# Altium schematic symbol library SparkFun-Capacitors.SCHLIB: 110 symbols
Pins are listed as number, name and electrical type; pins without a type are passive.

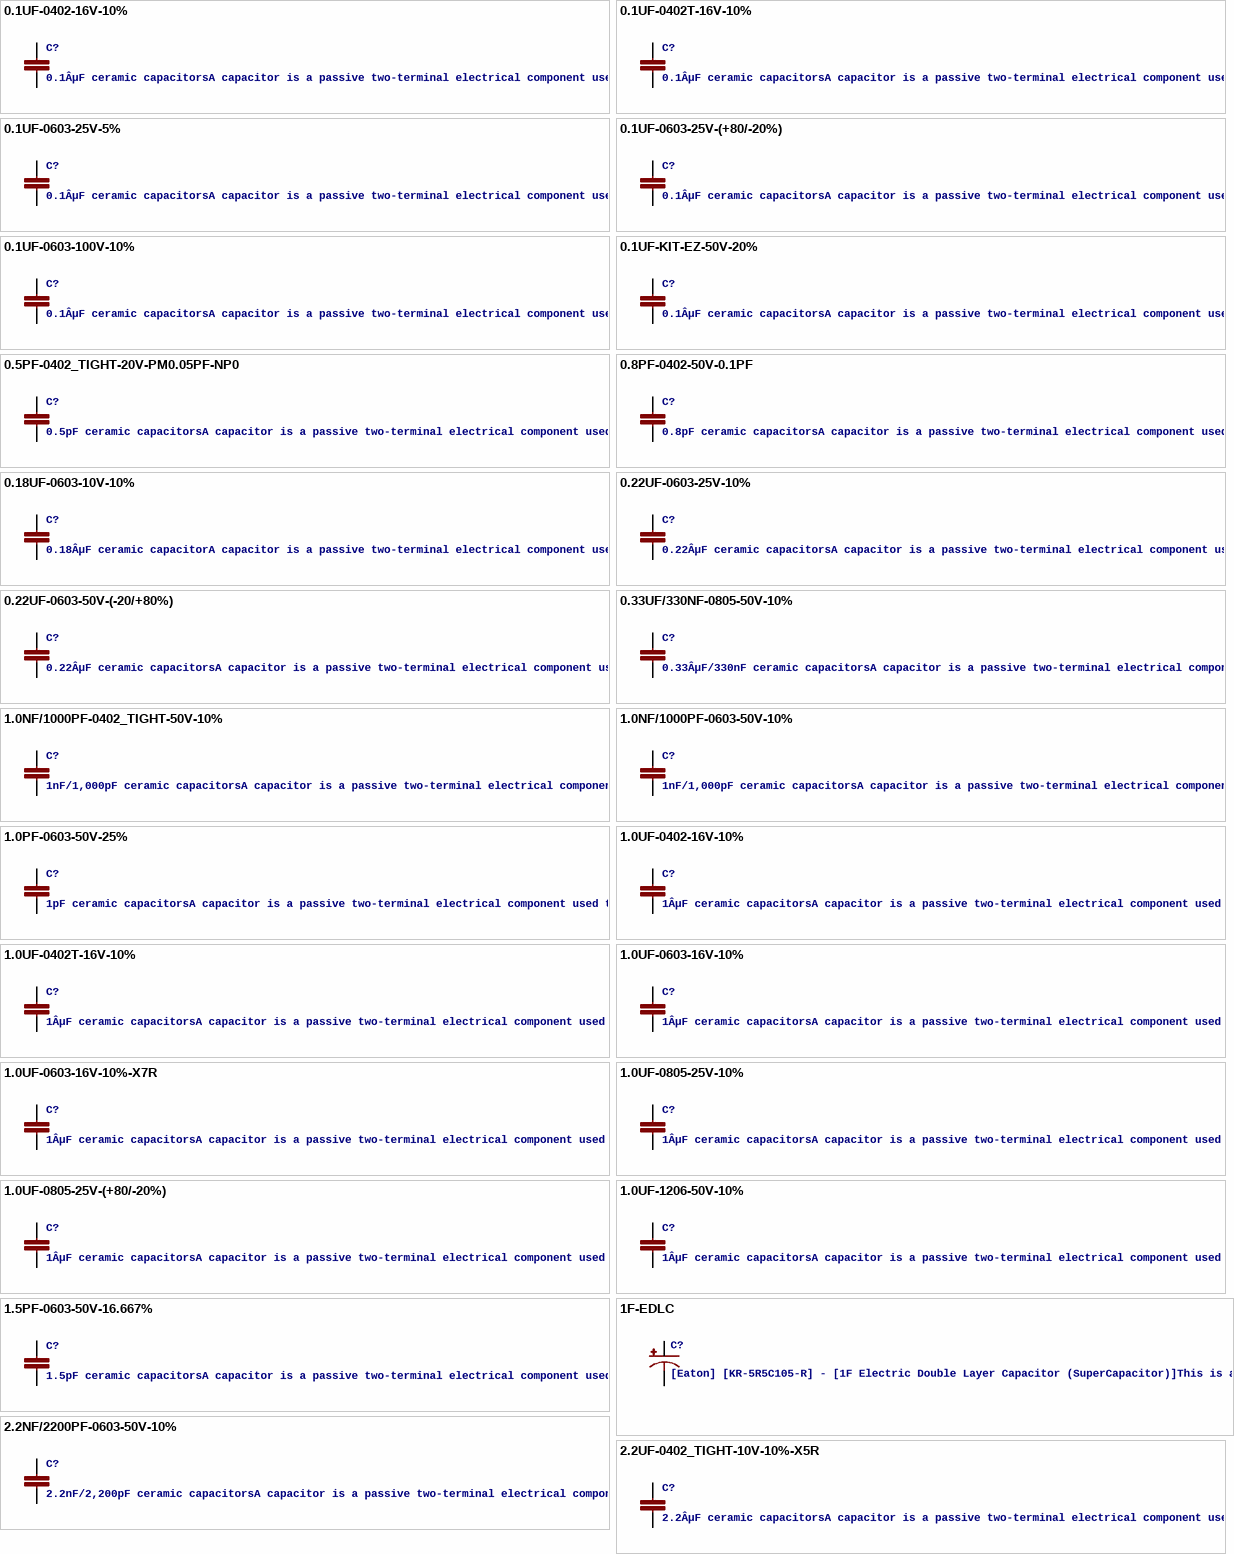
[diagram p0: symbols 0.1UF-0402-16V-10% to 2.2UF-0402_TIGHT-10V-10%-X5R]

## 0.1UF-0402-16V-10%
designator C?, comment 0.1ÂµF ceramic capacitorsA capacitor is a passive two-terminal electrical component used to store electrical energy temporarily in an electric field.
GateName_1: G$1; SymbolName_1: CAP; DeviceName: -0402-16V-10%; DeviceSetName: 0.1UF; PROD_ID: CAP-12416; LibraryName: SparkFun-Capacitors; Package: 0402
footprint 0402
pins: 1, 2

## 0.1UF-0402T-16V-10%
designator C?, comment 0.1ÂµF ceramic capacitorsA capacitor is a passive two-terminal electrical component used to store electrical energy temporarily in an electric field.
GateName_1: G$1; SymbolName_1: CAP; DeviceName: -0402T-16V-10%; DeviceSetName: 0.1UF; PROD_ID: CAP-12416; LibraryName: SparkFun-Capacitors; Package: 0402-TIGHT
footprint 0402-TIGHT
pins: 1, 2

## 0.1UF-0603-25V-5%
designator C?, comment 0.1ÂµF ceramic capacitorsA capacitor is a passive two-terminal electrical component used to store electrical energy temporarily in an electric field.
GateName_1: G$1; SymbolName_1: CAP; DeviceName: -0603-25V-5%; DeviceSetName: 0.1UF; PROD_ID: CAP-08604; LibraryName: SparkFun-Capacitors; Package: 0603
footprint 0603
pins: 1, 2

## 0.1UF-0603-25V-(+80/-20%)
designator C?, comment 0.1ÂµF ceramic capacitorsA capacitor is a passive two-terminal electrical component used to store electrical energy temporarily in an electric field.
GateName_1: G$1; SymbolName_1: CAP; DeviceName: -0603-25V-(+80/-20%); DeviceSetName: 0.1UF; PROD_ID: CAP-00810; LibraryName: SparkFun-Capacitors; Package: 0603
footprint 0603
pins: 1, 2

## 0.1UF-0603-100V-10%
designator C?, comment 0.1ÂµF ceramic capacitorsA capacitor is a passive two-terminal electrical component used to store electrical energy temporarily in an electric field.
GateName_1: G$1; SymbolName_1: CAP; DeviceName: -0603-100V-10%; DeviceSetName: 0.1UF; PROD_ID: CAP-08390; LibraryName: SparkFun-Capacitors; Package: 0603
footprint 0603
pins: 1, 2

## 0.1UF-KIT-EZ-50V-20%
designator C?, comment 0.1ÂµF ceramic capacitorsA capacitor is a passive two-terminal electrical component used to store electrical energy temporarily in an electric field.
GateName_1: G$1; SymbolName_1: CAP; DeviceName: -KIT-EZ-50V-20%; DeviceSetName: 0.1UF; PROD_ID: CAP-08370; LibraryName: SparkFun-Capacitors; Package: CAP-PTH-SMALL-KIT
footprint CAP-PTH-SMALL-KIT
pins: 1, 2

## 0.5PF-0402_TIGHT-20V-PM0.05PF-NP0
designator C?, comment 0.5pF ceramic capacitorsA capacitor is a passive two-terminal electrical component used to store electrical energy temporarily in an electric field.
GateName_1: G$1; SymbolName_1: CAP; DeviceName: -0402_TIGHT-20V-PM0.05PF-NP0; PROD_ID: CAP-14231; LibraryName: SparkFun-Capacitors; DeviceSetName: 0.5PF; Package: 0402-TIGHT
footprint 0402-TIGHT
pins: 1, 2

## 0.8PF-0402-50V-0.1PF
designator C?, comment 0.8pF ceramic capacitorsA capacitor is a passive two-terminal electrical component used to store electrical energy temporarily in an electric field.
GateName_1: G$1; SymbolName_1: CAP; DeviceName: -0402-50V-0.1PF; PROD_ID: CAP-13456; LibraryName: SparkFun-Capacitors; DeviceSetName: 0.8PF; Package: 0402
footprint 0402
pins: 1, 2

## 0.18UF-0603-10V-10%
designator C?, comment 0.18ÂµF ceramic capacitorA capacitor is a passive two-terminal electrical component used to store electrical energy temporarily in an electric field.
GateName_1: G$1; SymbolName_1: CAP; DeviceName: -0603-10V-10%; DeviceSetName: 0.18UF; PROD_ID: CAP-12380; LibraryName: SparkFun-Capacitors; Package: 0603
footprint 0603
pins: 1, 2

## 0.22UF-0603-25V-10%
designator C?, comment 0.22ÂµF ceramic capacitorsA capacitor is a passive two-terminal electrical component used to store electrical energy temporarily in an electric field.
GateName_1: G$1; SymbolName_1: CAP; DeviceName: -0603-25V-10%; DeviceSetName: 0.22UF; PROD_ID: CAP-07822; LibraryName: SparkFun-Capacitors; Package: 0603
footprint 0603
pins: 1, 2

## 0.22UF-0603-50V-(-20/+80%)
designator C?, comment 0.22ÂµF ceramic capacitorsA capacitor is a passive two-terminal electrical component used to store electrical energy temporarily in an electric field.
GateName_1: G$1; SymbolName_1: CAP; DeviceName: -0603-50V-(-20/+80%); DeviceSetName: 0.22UF; PROD_ID: CAP-09885; LibraryName: SparkFun-Capacitors; Package: 0603
footprint 0603
pins: 1, 2

## 0.33UF/330NF-0805-50V-10%
designator C?, comment 0.33ÂµF/330nF ceramic capacitorsA capacitor is a passive two-terminal electrical component used to store electrical energy temporarily in an electric field.
GateName_1: G$1; SymbolName_1: CAP; DeviceName: -0805-50V-10%; DeviceSetName: 0.33UF/330NF; PROD_ID: CAP-08469; LibraryName: SparkFun-Capacitors; Package: 0805
footprint 0805
pins: 1, 2

## 1.0NF/1000PF-0402_TIGHT-50V-10%
designator C?, comment 1nF/1,000pF ceramic capacitorsA capacitor is a passive two-terminal electrical component used to store electrical energy temporarily in an electric field.
GateName_1: G$1; SymbolName_1: CAP; DeviceName: -0402_TIGHT-50V-10%; DeviceSetName: 1.0NF/1000PF; PROD_ID: CAP-14280; LibraryName: SparkFun-Capacitors; Package: 0402-TIGHT
footprint 0402-TIGHT
pins: 1, 2

## 1.0NF/1000PF-0603-50V-10%
designator C?, comment 1nF/1,000pF ceramic capacitorsA capacitor is a passive two-terminal electrical component used to store electrical energy temporarily in an electric field.
GateName_1: G$1; SymbolName_1: CAP; DeviceName: -0603-50V-10%; DeviceSetName: 1.0NF/1000PF; PROD_ID: CAP-07886; LibraryName: SparkFun-Capacitors; Package: 0603
footprint 0603
pins: 1, 2

## 1.0PF-0603-50V-25%
designator C?, comment 1pF ceramic capacitorsA capacitor is a passive two-terminal electrical component used to store electrical energy temporarily in an electric field.
GateName_1: G$1; SymbolName_1: CAP; DeviceName: -0603-50V-25%; DeviceSetName: 1.0PF; PROD_ID: CAP-07879; LibraryName: SparkFun-Capacitors; Package: 0603
footprint 0603
pins: 1, 2

## 1.0UF-0402-16V-10%
designator C?, comment 1ÂµF ceramic capacitorsA capacitor is a passive two-terminal electrical component used to store electrical energy temporarily in an electric field.
GateName_1: G$1; SymbolName_1: CAP; DeviceName: -0402-16V-10%; DeviceSetName: 1.0UF; PROD_ID: CAP-12417; LibraryName: SparkFun-Capacitors; Package: 0402
footprint 0402
pins: 1, 2

## 1.0UF-0402T-16V-10%
designator C?, comment 1ÂµF ceramic capacitorsA capacitor is a passive two-terminal electrical component used to store electrical energy temporarily in an electric field.
GateName_1: G$1; SymbolName_1: CAP; DeviceName: -0402T-16V-10%; DeviceSetName: 1.0UF; PROD_ID: CAP-12417; LibraryName: SparkFun-Capacitors; Package: 0402-TIGHT
footprint 0402-TIGHT
pins: 1, 2

## 1.0UF-0603-16V-10%
designator C?, comment 1ÂµF ceramic capacitorsA capacitor is a passive two-terminal electrical component used to store electrical energy temporarily in an electric field.
GateName_1: G$1; SymbolName_1: CAP; DeviceName: -0603-16V-10%; DeviceSetName: 1.0UF; PROD_ID: CAP-00868; LibraryName: SparkFun-Capacitors; Package: 0603
footprint 0603
pins: 1, 2

## 1.0UF-0603-16V-10%-X7R
designator C?, comment 1ÂµF ceramic capacitorsA capacitor is a passive two-terminal electrical component used to store electrical energy temporarily in an electric field.
GateName_1: G$1; SymbolName_1: CAP; DeviceName: -0603-16V-10%-X7R; DeviceSetName: 1.0UF; PROD_ID: CAP-13930; LibraryName: SparkFun-Capacitors; Package: 0603
footprint 0603
pins: 1, 2

## 1.0UF-0805-25V-10%
designator C?, comment 1ÂµF ceramic capacitorsA capacitor is a passive two-terminal electrical component used to store electrical energy temporarily in an electric field.
GateName_1: G$1; SymbolName_1: CAP; DeviceName: -0805-25V-10%; DeviceSetName: 1.0UF; PROD_ID: CAP-08064; LibraryName: SparkFun-Capacitors; Package: 0805
footprint 0805
pins: 1, 2

## 1.0UF-0805-25V-(+80/-20%)
designator C?, comment 1ÂµF ceramic capacitorsA capacitor is a passive two-terminal electrical component used to store electrical energy temporarily in an electric field.
GateName_1: G$1; SymbolName_1: CAP; DeviceName: -0805-25V-(+80/-20%); DeviceSetName: 1.0UF; PROD_ID: CAP-11625; LibraryName: SparkFun-Capacitors; Package: 0805
footprint 0805
pins: 1, 2

## 1.0UF-1206-50V-10%
designator C?, comment 1ÂµF ceramic capacitorsA capacitor is a passive two-terminal electrical component used to store electrical energy temporarily in an electric field.
GateName_1: G$1; SymbolName_1: CAP; DeviceName: -1206-50V-10%; DeviceSetName: 1.0UF; PROD_ID: CAP-09822; LibraryName: SparkFun-Capacitors; Package: 1206
footprint 1206
pins: 1, 2

## 1.5PF-0603-50V-16.667%
designator C?, comment 1.5pF ceramic capacitorsA capacitor is a passive two-terminal electrical component used to store electrical energy temporarily in an electric field.
GateName_1: G$1; SymbolName_1: CAP; DeviceName: -0603-50V-16.667%; PROD_ID: CAP-08763; LibraryName: SparkFun-Capacitors; DeviceSetName: 1.5PF; Package: 0603
footprint 0603
pins: 1, 2

## 1F-EDLC
designator C?, comment [Eaton] [KR-5R5C105-R] - [1F Electric Double Layer Capacitor (SuperCapacitor)]This is a 21.5mm OD 1F SuperCapacitor.
GateName_1: G$1; SymbolName_1: CAP_POL; DeviceSetName: 1F-EDLC; PROD_ID: CAP-13904; LibraryName: SparkFun-Capacitors; Package: CAP-RADIAL-5MM-21.5MM
footprint CAP-RADIAL-5MM-21.5MM
pins: +, -

## 2.2NF/2200PF-0603-50V-10%
designator C?, comment 2.2nF/2,200pF ceramic capacitorsA capacitor is a passive two-terminal electrical component used to store electrical energy temporarily in an electric field.
GateName_1: G$1; SymbolName_1: CAP; DeviceName: -0603-50V-10%; DeviceSetName: 2.2NF/2200PF; PROD_ID: CAP-07877; LibraryName: SparkFun-Capacitors; Package: 0603
footprint 0603
pins: 1, 2

## 2.2UF-0402_TIGHT-10V-10%-X5R
designator C?, comment 2.2ÂµF ceramic capacitorsA capacitor is a passive two-terminal electrical component used to store electrical energy temporarily in an electric field.
GateName_1: G$1; SymbolName_1: CAP; DeviceName: -0402_TIGHT-10V-10%-X5R; DeviceSetName: 2.2UF; PROD_ID: CAP-14232; LibraryName: SparkFun-Capacitors; Package: 0402-TIGHT
footprint 0402-TIGHT
pins: 1, 2

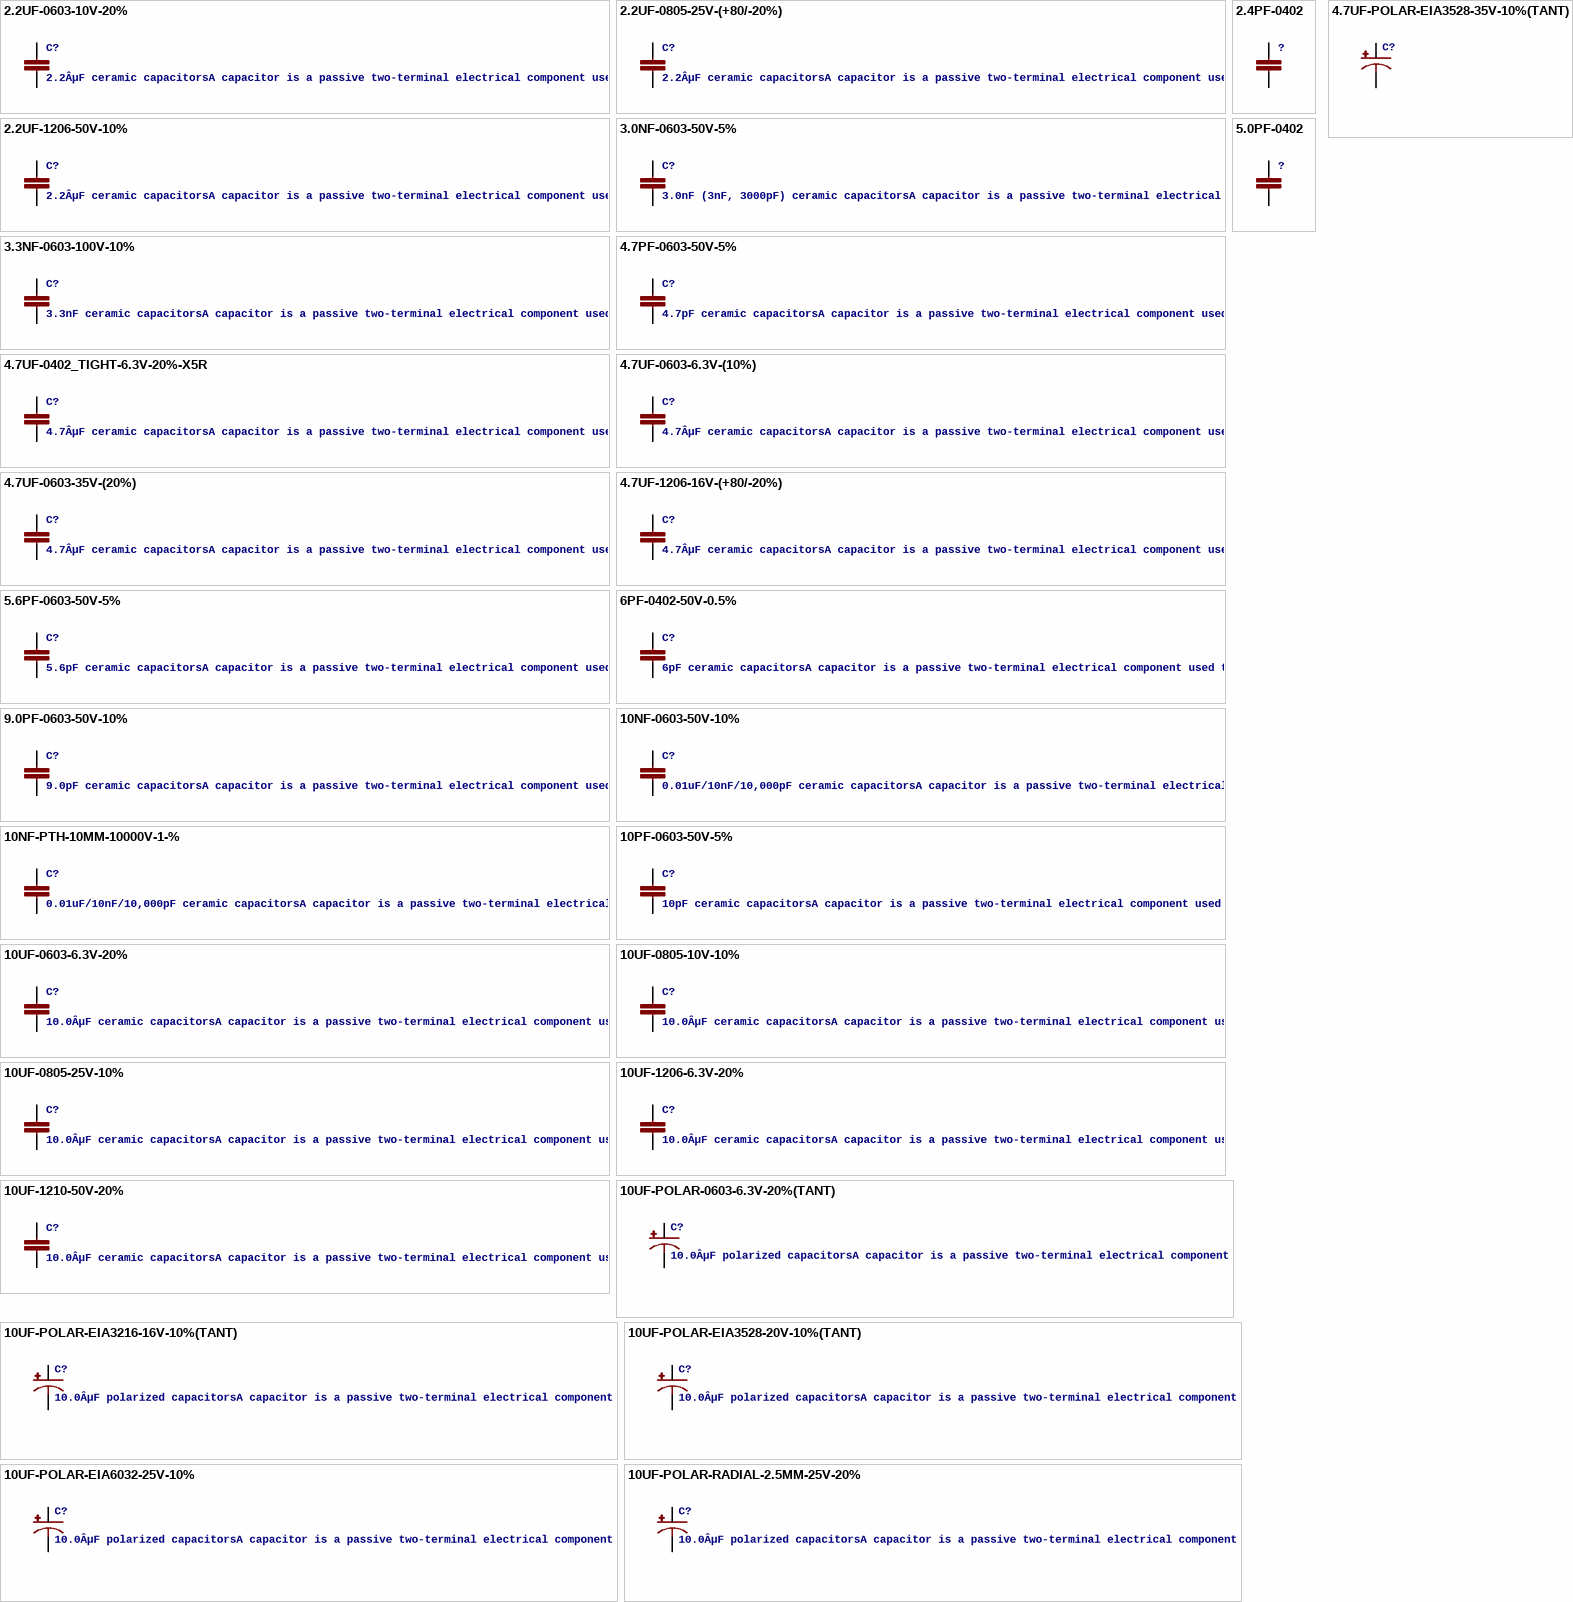
[diagram p1: symbols 2.2UF-0603-10V-20% to 10UF-POLAR-RADIAL-2.5MM-25V-20%]

## 2.2UF-0603-10V-20%
designator C?, comment 2.2ÂµF ceramic capacitorsA capacitor is a passive two-terminal electrical component used to store electrical energy temporarily in an electric field.
GateName_1: G$1; SymbolName_1: CAP; DeviceName: -0603-10V-20%; DeviceSetName: 2.2UF; PROD_ID: CAP-07888; LibraryName: SparkFun-Capacitors; Package: 0603
footprint 0603
pins: 1, 2

## 2.2UF-0805-25V-(+80/-20%)
designator C?, comment 2.2ÂµF ceramic capacitorsA capacitor is a passive two-terminal electrical component used to store electrical energy temporarily in an electric field.
GateName_1: G$1; SymbolName_1: CAP; DeviceName: -0805-25V-(+80/-20%); DeviceSetName: 2.2UF; PROD_ID: CAP-11624; LibraryName: SparkFun-Capacitors; Package: 0805
footprint 0805
pins: 1, 2

## 2.2UF-1206-50V-10%
designator C?, comment 2.2ÂµF ceramic capacitorsA capacitor is a passive two-terminal electrical component used to store electrical energy temporarily in an electric field.
GateName_1: G$1; SymbolName_1: CAP; DeviceName: -1206-50V-10%; DeviceSetName: 2.2UF; PROD_ID: CAP-10009; LibraryName: SparkFun-Capacitors; Package: 1206
footprint 1206
pins: 1, 2

## 2.4PF-0402
designator ?
GateName_1: G$1; SymbolName_1: CAP; DeviceName: -0402; DeviceSetName: 2.4PF; PROD_ID: CAP-14351; LibraryName: SparkFun-Capacitors; Package: 0402_MURATA
footprint 0402_MURATA
pins: P$1 1, P$2 2

## 3.0NF-0603-50V-5%
designator C?, comment 3.0nF (3nF, 3000pF) ceramic capacitorsA capacitor is a passive two-terminal electrical component used to store electrical energy temporarily in an electric field.
GateName_1: G$1; SymbolName_1: CAP-1; DeviceName: -0603-50V-5%; PROD_ID: CAP-13515; LibraryName: SparkFun-Capacitors; DeviceSetName: 3.0NF; Package: 0603
footprint 0603
pins: 1, 2

## 3.3NF-0603-100V-10%
designator C?, comment 3.3nF ceramic capacitorsA capacitor is a passive two-terminal electrical component used to store electrical energy temporarily in an electric field.
GateName_1: G$1; SymbolName_1: CAP; DeviceName: -0603-100V-10%; PROD_ID: CAP-09633; LibraryName: SparkFun-Capacitors; DeviceSetName: 3.3NF; Package: 0603
footprint 0603
pins: 1, 2

## 4.7PF-0603-50V-5%
designator C?, comment 4.7pF ceramic capacitorsA capacitor is a passive two-terminal electrical component used to store electrical energy temporarily in an electric field.
GateName_1: G$1; SymbolName_1: CAP; DeviceName: -0603-50V-5%; PROD_ID: CAP-07880; LibraryName: SparkFun-Capacitors; DeviceSetName: 4.7PF; Package: 0603
footprint 0603
pins: 1, 2

## 4.7UF-0402_TIGHT-6.3V-20%-X5R
designator C?, comment 4.7ÂµF ceramic capacitorsA capacitor is a passive two-terminal electrical component used to store electrical energy temporarily in an electric field.
GateName_1: G$1; SymbolName_1: CAP; DeviceName: -0402_TIGHT-6.3V-20%-X5R; DeviceSetName: 4.7UF; PROD_ID: CAP-14240; LibraryName: SparkFun-Capacitors; Package: 0402-TIGHT
footprint 0402-TIGHT
pins: 1, 2

## 4.7UF-0603-6.3V-(10%)
designator C?, comment 4.7ÂµF ceramic capacitorsA capacitor is a passive two-terminal electrical component used to store electrical energy temporarily in an electric field.
GateName_1: G$1; SymbolName_1: CAP; DeviceName: -0603-6.3V-(10%); DeviceSetName: 4.7UF; PROD_ID: CAP-08280; LibraryName: SparkFun-Capacitors; Package: 0603
footprint 0603
pins: 1, 2

## 4.7UF-0603-35V-(20%)
designator C?, comment 4.7ÂµF ceramic capacitorsA capacitor is a passive two-terminal electrical component used to store electrical energy temporarily in an electric field.
GateName_1: G$1; SymbolName_1: CAP; DeviceName: -0603-35V-(20%); DeviceSetName: 4.7UF; PROD_ID: CAP-14106; LibraryName: SparkFun-Capacitors; Package: 0603
footprint 0603
pins: 1, 2

## 4.7UF-1206-16V-(+80/-20%)
designator C?, comment 4.7ÂµF ceramic capacitorsA capacitor is a passive two-terminal electrical component used to store electrical energy temporarily in an electric field.
GateName_1: G$1; SymbolName_1: CAP; DeviceName: -1206-16V-(+80/-20%); DeviceSetName: 4.7UF; PROD_ID: CAP-10300; LibraryName: SparkFun-Capacitors; Package: 1206
footprint 1206
pins: 1, 2

## 4.7UF-POLAR-EIA3528-35V-10%(TANT)
designator C?
GateName_1: G$1; SymbolName_1: CAP_POL; DeviceName: -EIA3528-35V-10%(TANT); DeviceSetName: 4.7UF-POLAR; PROD_ID: CAP-13916; LibraryName: SparkFun-Capacitors; Package: EIA3528
footprint EIA3528
pins: A +, C -

## 5.0PF-0402
designator ?
GateName_1: G$1; SymbolName_1: CAP; DeviceName: -0402; DeviceSetName: 5.0PF; PROD_ID: CAP-14350; LibraryName: SparkFun-Capacitors; Package: 0402_MURATA
footprint 0402_MURATA
pins: P$1 1, P$2 2

## 5.6PF-0603-50V-5%
designator C?, comment 5.6pF ceramic capacitorsA capacitor is a passive two-terminal electrical component used to store electrical energy temporarily in an electric field.
GateName_1: G$1; SymbolName_1: CAP; DeviceName: -0603-50V-5%; PROD_ID: CAP-12456; LibraryName: SparkFun-Capacitors; DeviceSetName: 5.6PF; Package: 0603
footprint 0603
pins: 1, 2

## 6PF-0402-50V-0.5%
designator C?, comment 6pF ceramic capacitorsA capacitor is a passive two-terminal electrical component used to store electrical energy temporarily in an electric field.
GateName_1: G$1; SymbolName_1: CAP; DeviceName: -0402-50V-0.5%; PROD_ID: CAP-13455; LibraryName: SparkFun-Capacitors; DeviceSetName: 6PF; Package: 0402
footprint 0402
pins: 1, 2

## 9.0PF-0603-50V-10%
designator C?, comment 9.0pF ceramic capacitorsA capacitor is a passive two-terminal electrical component used to store electrical energy temporarily in an electric field.
GateName_1: G$1; SymbolName_1: CAP; DeviceName: -0603-50V-10%; PROD_ID: CAP-09341; LibraryName: SparkFun-Capacitors; DeviceSetName: 9.0PF; Package: 0603
footprint 0603
pins: 1, 2

## 10NF-0603-50V-10%
designator C?, comment 0.01uF/10nF/10,000pF ceramic capacitorsA capacitor is a passive two-terminal electrical component used to store electrical energy temporarily in an electric field.CAP-09321
GateName_1: G$1; SymbolName_1: CAP; DeviceName: -0603-50V-10%; DeviceSetName: 10NF; PROD_ID: CAP-00867; LibraryName: SparkFun-Capacitors; Package: 0603
footprint 0603
pins: 1, 2

## 10NF-PTH-10MM-10000V-1-%
designator C?, comment 0.01uF/10nF/10,000pF ceramic capacitorsA capacitor is a passive two-terminal electrical component used to store electrical energy temporarily in an electric field.CAP-09321
GateName_1: G$1; SymbolName_1: CAP; DeviceName: -PTH-10MM-10000V-1-%; DeviceSetName: 10NF; LibraryName: SparkFun-Capacitors; Package: CAP-PTH-10MM; PROD_ID: CAP-09321
footprint CAP-PTH-10MM
pins: 1, 2

## 10PF-0603-50V-5%
designator C?, comment 10pF ceramic capacitorsA capacitor is a passive two-terminal electrical component used to store electrical energy temporarily in an electric field.
GateName_1: G$1; SymbolName_1: CAP; DeviceName: -0603-50V-5%; PROD_ID: CAP-11812; LibraryName: SparkFun-Capacitors; DeviceSetName: 10PF; Package: 0603
footprint 0603
pins: 1, 2

## 10UF-0603-6.3V-20%
designator C?, comment 10.0ÂµF ceramic capacitorsA capacitor is a passive two-terminal electrical component used to store electrical energy temporarily in an electric field.
GateName_1: G$1; SymbolName_1: CAP; DeviceName: -0603-6.3V-20%; DeviceSetName: 10UF; PROD_ID: CAP-11015; LibraryName: SparkFun-Capacitors; Package: 0603
footprint 0603
pins: 1, 2

## 10UF-0805-10V-10%
designator C?, comment 10.0ÂµF ceramic capacitorsA capacitor is a passive two-terminal electrical component used to store electrical energy temporarily in an electric field.
GateName_1: G$1; SymbolName_1: CAP; DeviceName: -0805-10V-10%; DeviceSetName: 10UF; PROD_ID: CAP-11330; LibraryName: SparkFun-Capacitors; Package: 0805
footprint 0805
pins: 1, 2

## 10UF-0805-25V-10%
designator C?, comment 10.0ÂµF ceramic capacitorsA capacitor is a passive two-terminal electrical component used to store electrical energy temporarily in an electric field.
GateName_1: G$1; SymbolName_1: CAP; DeviceName: -0805-25V-10%; DeviceSetName: 10UF; PROD_ID: CAP-14259; LibraryName: SparkFun-Capacitors; Package: 0805
footprint 0805
pins: 1, 2

## 10UF-1206-6.3V-20%
designator C?, comment 10.0ÂµF ceramic capacitorsA capacitor is a passive two-terminal electrical component used to store electrical energy temporarily in an electric field.
GateName_1: G$1; SymbolName_1: CAP; DeviceName: -1206-6.3V-20%; DeviceSetName: 10UF; PROD_ID: CAP-10057; LibraryName: SparkFun-Capacitors; Package: 1206
footprint 1206
pins: 1, 2

## 10UF-1210-50V-20%
designator C?, comment 10.0ÂµF ceramic capacitorsA capacitor is a passive two-terminal electrical component used to store electrical energy temporarily in an electric field.
GateName_1: G$1; SymbolName_1: CAP; DeviceName: -1210-50V-20%; DeviceSetName: 10UF; PROD_ID: CAP-09824; LibraryName: SparkFun-Capacitors; Package: 1210
footprint 1210
pins: 1, 2

## 10UF-POLAR-0603-6.3V-20%(TANT)
designator C?, comment 10.0ÂµF polarized capacitorsA capacitor is a passive two-terminal electrical component used to store electrical energy temporarily in an electric field.
GateName_1: G$1; SymbolName_1: CAP_POL; DeviceName: -0603-6.3V-20%(TANT); DeviceSetName: 10UF-POLAR; PROD_ID: CAP-13210; LibraryName: SparkFun-Capacitors; Package: 0603-POLAR
footprint 0603-POLAR
pins: +, -

## 10UF-POLAR-EIA3216-16V-10%(TANT)
designator C?, comment 10.0ÂµF polarized capacitorsA capacitor is a passive two-terminal electrical component used to store electrical energy temporarily in an electric field.
GateName_1: G$1; SymbolName_1: CAP_POL; DeviceName: -EIA3216-16V-10%(TANT); DeviceSetName: 10UF-POLAR; PROD_ID: CAP-00811; LibraryName: SparkFun-Capacitors; Package: EIA3216
footprint EIA3216
pins: +, -

## 10UF-POLAR-EIA3528-20V-10%(TANT)
designator C?, comment 10.0ÂµF polarized capacitorsA capacitor is a passive two-terminal electrical component used to store electrical energy temporarily in an electric field.
GateName_1: G$1; SymbolName_1: CAP_POL; DeviceName: -EIA3528-20V-10%(TANT); DeviceSetName: 10UF-POLAR; PROD_ID: CAP-08063; LibraryName: SparkFun-Capacitors; Package: EIA3528
footprint EIA3528
pins: A +, C -

## 10UF-POLAR-EIA6032-25V-10%
designator C?, comment 10.0ÂµF polarized capacitorsA capacitor is a passive two-terminal electrical component used to store electrical energy temporarily in an electric field.
GateName_1: G$1; SymbolName_1: CAP_POL; DeviceName: -EIA6032-25V-10%; DeviceSetName: 10UF-POLAR; PROD_ID: CAP-12984; LibraryName: SparkFun-Capacitors; Package: EIA6032-NOM
footprint EIA6032-NOM
pins: A +, C -

## 10UF-POLAR-RADIAL-2.5MM-25V-20%
designator C?, comment 10.0ÂµF polarized capacitorsA capacitor is a passive two-terminal electrical component used to store electrical energy temporarily in an electric field.
GateName_1: G$1; SymbolName_1: CAP_POL; DeviceName: -RADIAL-2.5MM-25V-20%; DeviceSetName: 10UF-POLAR; PROD_ID: CAP-08440; LibraryName: SparkFun-Capacitors; Package: CPOL-RADIAL-2.5MM-5MM
footprint CPOL-RADIAL-2.5MM-5MM
pins: 1 +, 2 -

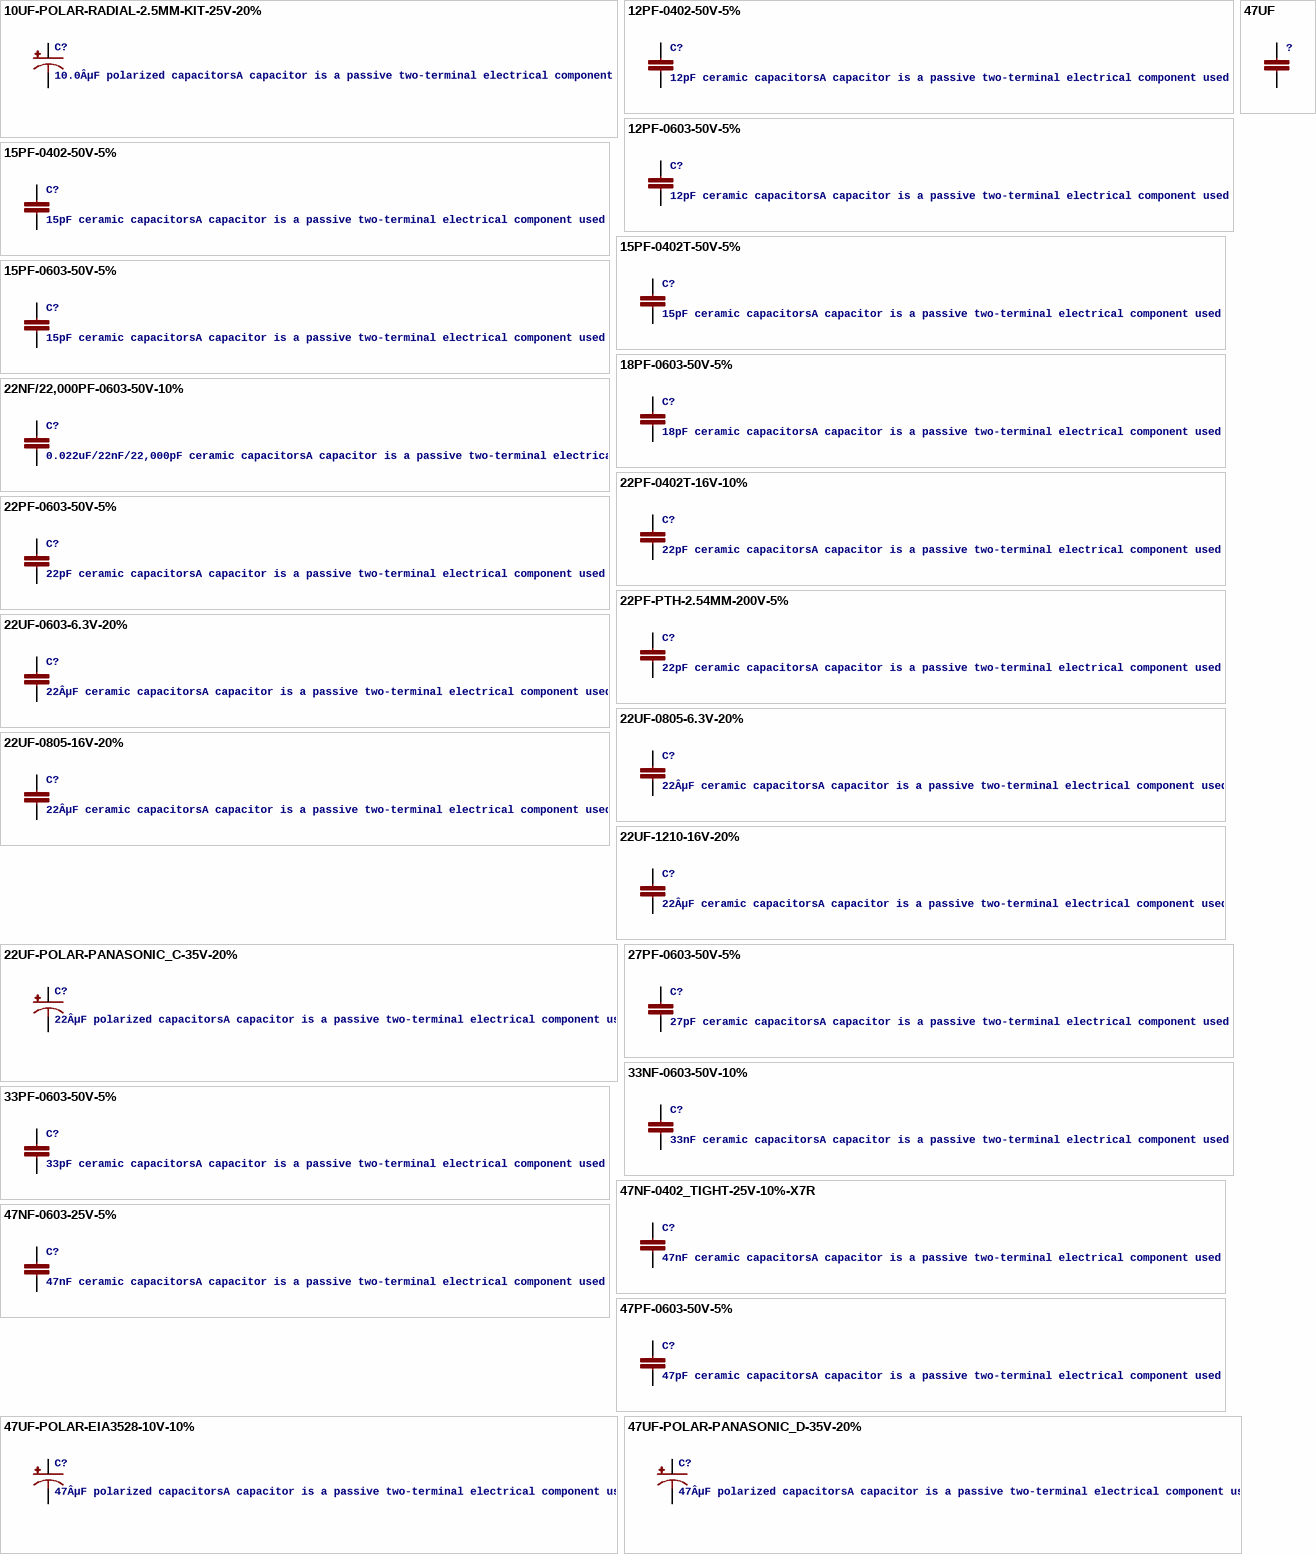
[diagram p2: symbols 10UF-POLAR-RADIAL-2.5MM-KIT-25V-20% to 47UF-POLAR-PANASONIC_D-35V-20%]

## 10UF-POLAR-RADIAL-2.5MM-KIT-25V-20%
designator C?, comment 10.0ÂµF polarized capacitorsA capacitor is a passive two-terminal electrical component used to store electrical energy temporarily in an electric field.
GateName_1: G$1; SymbolName_1: CAP_POL; DeviceName: -RADIAL-2.5MM-KIT-25V-20%; DeviceSetName: 10UF-POLAR; PROD_ID: CAP-08440; LibraryName: SparkFun-Capacitors; Package: CPOL-RADIAL-2.5MM-5MM-KIT
footprint CPOL-RADIAL-2.5MM-5MM-KIT
pins: 1 +, 2 -

## 12PF-0402-50V-5%
designator C?, comment 12pF ceramic capacitorsA capacitor is a passive two-terminal electrical component used to store electrical energy temporarily in an electric field.
GateName_1: G$1; SymbolName_1: CAP; DeviceName: -0402-50V-5%; PROD_ID: CAP-14665; LibraryName: SparkFun-Capacitors; DeviceSetName: 12PF; Package: 0402
footprint 0402
pins: 1, 2

## 12PF-0603-50V-5%
designator C?, comment 12pF ceramic capacitorsA capacitor is a passive two-terminal electrical component used to store electrical energy temporarily in an electric field.
GateName_1: G$1; SymbolName_1: CAP; DeviceName: -0603-50V-5%; PROD_ID: CAP-09137; LibraryName: SparkFun-Capacitors; DeviceSetName: 12PF; Package: 0603
footprint 0603
pins: 1, 2

## 15PF-0402-50V-5%
designator C?, comment 15pF ceramic capacitorsA capacitor is a passive two-terminal electrical component used to store electrical energy temporarily in an electric field.
GateName_1: G$1; SymbolName_1: CAP; DeviceName: -0402-50V-5%; PROD_ID: CAP-13063; LibraryName: SparkFun-Capacitors; DeviceSetName: 15PF; Package: 0402
footprint 0402
pins: 1, 2

## 15PF-0402T-50V-5%
designator C?, comment 15pF ceramic capacitorsA capacitor is a passive two-terminal electrical component used to store electrical energy temporarily in an electric field.
GateName_1: G$1; SymbolName_1: CAP; DeviceName: -0402T-50V-5%; PROD_ID: CAP-13063; LibraryName: SparkFun-Capacitors; DeviceSetName: 15PF; Package: 0402-TIGHT
footprint 0402-TIGHT
pins: 1, 2

## 15PF-0603-50V-5%
designator C?, comment 15pF ceramic capacitorsA capacitor is a passive two-terminal electrical component used to store electrical energy temporarily in an electric field.
GateName_1: G$1; SymbolName_1: CAP; DeviceName: -0603-50V-5%; PROD_ID: CAP-07881; LibraryName: SparkFun-Capacitors; DeviceSetName: 15PF; Package: 0603
footprint 0603
pins: 1, 2

## 18PF-0603-50V-5%
designator C?, comment 18pF ceramic capacitorsA capacitor is a passive two-terminal electrical component used to store electrical energy temporarily in an electric field.
GateName_1: G$1; SymbolName_1: CAP; DeviceName: -0603-50V-5%; PROD_ID: CAP-08267; LibraryName: SparkFun-Capacitors; DeviceSetName: 18PF; Package: 0603
footprint 0603
pins: 1, 2

## 22NF/22,000PF-0603-50V-10%
designator C?, comment 0.022uF/22nF/22,000pF ceramic capacitorsA capacitor is a passive two-terminal electrical component used to store electrical energy temporarily in an electric field.
GateName_1: G$1; SymbolName_1: CAP; DeviceName: -0603-50V-10%; PROD_ID: CAP-07885; LibraryName: SparkFun-Capacitors; DeviceSetName: 22NF/22,000PF; Package: 0603
footprint 0603
pins: 1, 2

## 22PF-0402T-16V-10%
designator C?, comment 22pF ceramic capacitorsA capacitor is a passive two-terminal electrical component used to store electrical energy temporarily in an electric field.
GateName_1: G$1; SymbolName_1: CAP; DeviceName: -0402T-16V-10%; PROD_ID: CAP-14674; LibraryName: SparkFun-Capacitors; DeviceSetName: 22PF; Package: 0402-TIGHT
footprint 0402-TIGHT
pins: 1, 2

## 22PF-0603-50V-5%
designator C?, comment 22pF ceramic capacitorsA capacitor is a passive two-terminal electrical component used to store electrical energy temporarily in an electric field.
GateName_1: G$1; SymbolName_1: CAP; DeviceName: -0603-50V-5%; PROD_ID: CAP-07876; LibraryName: SparkFun-Capacitors; DeviceSetName: 22PF; Package: 0603
footprint 0603
pins: 1, 2

## 22PF-PTH-2.54MM-200V-5%
designator C?, comment 22pF ceramic capacitorsA capacitor is a passive two-terminal electrical component used to store electrical energy temporarily in an electric field.
GateName_1: G$1; SymbolName_1: CAP; DeviceName: -PTH-2.54MM-200V-5%; PROD_ID: CAP-09128; LibraryName: SparkFun-Capacitors; DeviceSetName: 22PF; Package: CAP-PTH-2.54
footprint CAP-PTH-2.54
pins: 1, 2

## 22UF-0603-6.3V-20%
designator C?, comment 22ÂµF ceramic capacitorsA capacitor is a passive two-terminal electrical component used to store electrical energy temporarily in an electric field.
GateName_1: G$1; SymbolName_1: CAP; DeviceName: -0603-6.3V-20%; DeviceSetName: 22UF; PROD_ID: CAP-14464; LibraryName: SparkFun-Capacitors; Package: 0603
footprint 0603
pins: 1, 2

## 22UF-0805-6.3V-20%
designator C?, comment 22ÂµF ceramic capacitorsA capacitor is a passive two-terminal electrical component used to store electrical energy temporarily in an electric field.
GateName_1: G$1; SymbolName_1: CAP; DeviceName: -0805-6.3V-20%; DeviceSetName: 22UF; PROD_ID: CAP-08402; LibraryName: SparkFun-Capacitors; Package: 0805
footprint 0805
pins: 1, 2

## 22UF-0805-16V-20%
designator C?, comment 22ÂµF ceramic capacitorsA capacitor is a passive two-terminal electrical component used to store electrical energy temporarily in an electric field.
GateName_1: G$1; SymbolName_1: CAP; DeviceName: -0805-16V-20%; DeviceSetName: 22UF; PROD_ID: CAP-14260; LibraryName: SparkFun-Capacitors; Package: 0805
footprint 0805
pins: 1, 2

## 22UF-1210-16V-20%
designator C?, comment 22ÂµF ceramic capacitorsA capacitor is a passive two-terminal electrical component used to store electrical energy temporarily in an electric field.
GateName_1: G$1; SymbolName_1: CAP; DeviceName: -1210-16V-20%; DeviceSetName: 22UF; LibraryName: SparkFun-Capacitors; Package: 1210
footprint 1210
pins: 1, 2

## 22UF-POLAR-PANASONIC_C-35V-20%
designator C?, comment 22ÂµF polarized capacitorsA capacitor is a passive two-terminal electrical component used to store electrical energy temporarily in an electric field.
GateName_1: G$1; SymbolName_1: CAP_POL; DeviceName: -PANASONIC_C-35V-20%; DeviceSetName: 22UF-POLAR; PROD_ID: CAP-08618; LibraryName: SparkFun-Capacitors; Package: PANASONIC_C
footprint PANASONIC_C
pins: +, -

## 27PF-0603-50V-5%
designator C?, comment 27pF ceramic capacitorsA capacitor is a passive two-terminal electrical component used to store electrical energy temporarily in an electric field.
GateName_1: G$1; SymbolName_1: CAP; DeviceName: -0603-50V-5%; PROD_ID: CAP-09989; LibraryName: SparkFun-Capacitors; DeviceSetName: 27PF; Package: 0603
footprint 0603
pins: 1, 2

## 33NF-0603-50V-10%
designator C?, comment 33nF ceramic capacitorsA capacitor is a passive two-terminal electrical component used to store electrical energy temporarily in an electric field.
GateName_1: G$1; SymbolName_1: CAP; DeviceName: -0603-50V-10%; PROD_ID: CAP-07887; LibraryName: SparkFun-Capacitors; DeviceSetName: 33NF; Package: 0603
footprint 0603
pins: 1, 2

## 33PF-0603-50V-5%
designator C?, comment 33pF ceramic capacitorsA capacitor is a passive two-terminal electrical component used to store electrical energy temporarily in an electric field.
GateName_1: G$1; SymbolName_1: CAP; DeviceName: -0603-50V-5%; PROD_ID: CAP-10142; LibraryName: SparkFun-Capacitors; DeviceSetName: 33PF; Package: 0603
footprint 0603
pins: 1, 2

## 47NF-0402_TIGHT-25V-10%-X7R
designator C?, comment 47nF ceramic capacitorsA capacitor is a passive two-terminal electrical component used to store electrical energy temporarily in an electric field.
GateName_1: G$1; SymbolName_1: CAP; DeviceName: -0402_TIGHT-25V-10%-X7R; PROD_ID: CAP-14243; LibraryName: SparkFun-Capacitors; DeviceSetName: 47NF; Package: 0402-TIGHT
footprint 0402-TIGHT
pins: 1, 2

## 47NF-0603-25V-5%
designator C?, comment 47nF ceramic capacitorsA capacitor is a passive two-terminal electrical component used to store electrical energy temporarily in an electric field.
GateName_1: G$1; SymbolName_1: CAP; DeviceName: -0603-25V-5%; PROD_ID: CAP-08605; LibraryName: SparkFun-Capacitors; DeviceSetName: 47NF; Package: 0603
footprint 0603
pins: 1, 2

## 47PF-0603-50V-5%
designator C?, comment 47pF ceramic capacitorsA capacitor is a passive two-terminal electrical component used to store electrical energy temporarily in an electric field.
GateName_1: G$1; SymbolName_1: CAP; DeviceName: -0603-50V-5%; PROD_ID: CAP-08913; LibraryName: SparkFun-Capacitors; DeviceSetName: 47PF; Package: 0603
footprint 0603
pins: 1, 2

## 47UF
designator ?
GateName_1: G$1; SymbolName_1: CAP; DeviceSetName: 47UF; PROD_ID: CAP-13854; LibraryName: SparkFun-Capacitors; Package: 0805
footprint 0805
pins: 1, 2

## 47UF-POLAR-EIA3528-10V-10%
designator C?, comment 47ÂµF polarized capacitorsA capacitor is a passive two-terminal electrical component used to store electrical energy temporarily in an electric field.
GateName_1: G$1; SymbolName_1: CAP_POL; DeviceName: -EIA3528-10V-10%; DeviceSetName: 47UF-POLAR; PROD_ID: CAP-08310; LibraryName: SparkFun-Capacitors; Package: EIA3528
footprint EIA3528
pins: A +, C -

## 47UF-POLAR-PANASONIC_D-35V-20%
designator C?, comment 47ÂµF polarized capacitorsA capacitor is a passive two-terminal electrical component used to store electrical energy temporarily in an electric field.
GateName_1: G$1; SymbolName_1: CAP_POL; DeviceName: -PANASONIC_D-35V-20%; DeviceSetName: 47UF-POLAR; PROD_ID: CAP-08478; LibraryName: SparkFun-Capacitors; Package: PANASONIC_D
footprint PANASONIC_D
pins: +, -

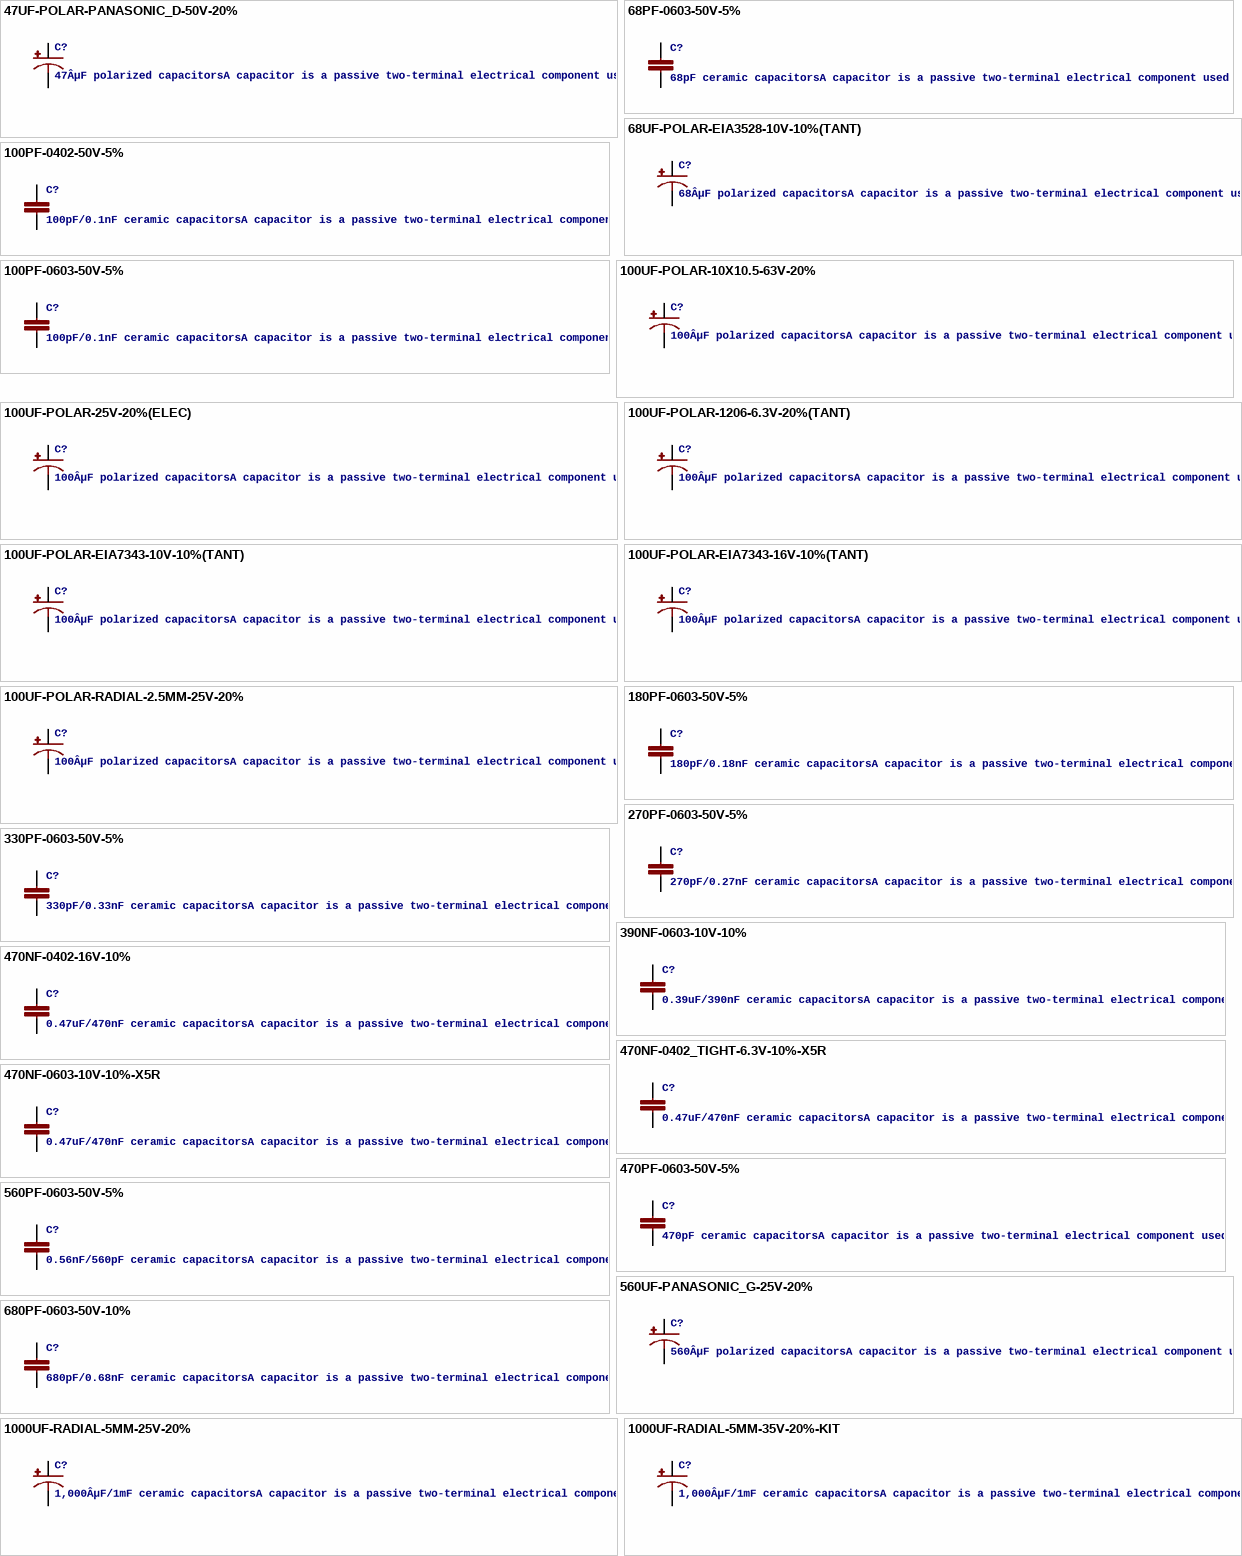
[diagram p3: symbols 47UF-POLAR-PANASONIC_D-50V-20% to 1000UF-RADIAL-5MM-35V-20%-KIT]

## 47UF-POLAR-PANASONIC_D-50V-20%
designator C?, comment 47ÂµF polarized capacitorsA capacitor is a passive two-terminal electrical component used to store electrical energy temporarily in an electric field.
GateName_1: G$1; SymbolName_1: CAP_POL; DeviceName: -PANASONIC_D-50V-20%; DeviceSetName: 47UF-POLAR; LibraryName: SparkFun-Capacitors; Package: PANASONIC_D
footprint PANASONIC_D
pins: +, -

## 68PF-0603-50V-5%
designator C?, comment 68pF ceramic capacitorsA capacitor is a passive two-terminal electrical component used to store electrical energy temporarily in an electric field.
GateName_1: G$1; SymbolName_1: CAP; DeviceName: -0603-50V-5%; PROD_ID: CAP-14092; LibraryName: SparkFun-Capacitors; DeviceSetName: 68PF; Package: 0603
footprint 0603
pins: 1, 2

## 68UF-POLAR-EIA3528-10V-10%(TANT)
designator C?, comment 68ÂµF polarized capacitorsA capacitor is a passive two-terminal electrical component used to store electrical energy temporarily in an electric field.
GateName_1: G$1; SymbolName_1: CAP_POL; DeviceName: -EIA3528-10V-10%(TANT); DeviceSetName: 68UF-POLAR; PROD_ID: CAP-10790; LibraryName: SparkFun-Capacitors; Package: EIA3528
footprint EIA3528
pins: A +, C -

## 100PF-0402-50V-5%
designator C?, comment 100pF/0.1nF ceramic capacitorsA capacitor is a passive two-terminal electrical component used to store electrical energy temporarily in an electric field.
GateName_1: G$1; SymbolName_1: CAP; DeviceName: -0402-50V-5%; DeviceSetName: 100PF; PROD_ID: CAP-13458; LibraryName: SparkFun-Capacitors; Package: 0402
footprint 0402
pins: 1, 2

## 100PF-0603-50V-5%
designator C?, comment 100pF/0.1nF ceramic capacitorsA capacitor is a passive two-terminal electrical component used to store electrical energy temporarily in an electric field.
GateName_1: G$1; SymbolName_1: CAP; DeviceName: -0603-50V-5%; DeviceSetName: 100PF; PROD_ID: CAP-07883; LibraryName: SparkFun-Capacitors; Package: 0603
footprint 0603
pins: 1, 2

## 100UF-POLAR-10X10.5-63V-20%
designator C?, comment 100ÂµF polarized capacitorsA capacitor is a passive two-terminal electrical component used to store electrical energy temporarily in an electric field.
GateName_1: G$1; SymbolName_1: CAP_POL; DeviceName: -10X10.5-63V-20%; DeviceSetName: 100UF-POLAR; PROD_ID: CAP-08362; LibraryName: SparkFun-Capacitors; Package: NIC_10X10.5_CAP
footprint NIC_10X10.5_CAP
pins: +, -

## 100UF-POLAR-25V-20%(ELEC)
designator C?, comment 100ÂµF polarized capacitorsA capacitor is a passive two-terminal electrical component used to store electrical energy temporarily in an electric field.
GateName_1: G$1; SymbolName_1: CAP_POL; DeviceName: -25V-20%(ELEC); DeviceSetName: 100UF-POLAR; PROD_ID: CAP-12547; LibraryName: SparkFun-Capacitors; Package: PANASONIC_D
footprint PANASONIC_D
pins: +, -

## 100UF-POLAR-1206-6.3V-20%(TANT)
designator C?, comment 100ÂµF polarized capacitorsA capacitor is a passive two-terminal electrical component used to store electrical energy temporarily in an electric field.
GateName_1: G$1; SymbolName_1: CAP_POL; DeviceName: -1206-6.3V-20%(TANT); DeviceSetName: 100UF-POLAR; PROD_ID: CAP-14093; LibraryName: SparkFun-Capacitors; Package: 1206-POLAR
footprint 1206-POLAR
pins: 1 +, 2 -

## 100UF-POLAR-EIA7343-10V-10%(TANT)
designator C?, comment 100ÂµF polarized capacitorsA capacitor is a passive two-terminal electrical component used to store electrical energy temporarily in an electric field.
GateName_1: G$1; SymbolName_1: CAP_POL; DeviceName: -EIA7343-10V-10%(TANT); DeviceSetName: 100UF-POLAR; PROD_ID: CAP-07890; LibraryName: SparkFun-Capacitors; Package: EIA7343
footprint EIA7343
pins: A +, C -

## 100UF-POLAR-EIA7343-16V-10%(TANT)
designator C?, comment 100ÂµF polarized capacitorsA capacitor is a passive two-terminal electrical component used to store electrical energy temporarily in an electric field.
GateName_1: G$1; SymbolName_1: CAP_POL; DeviceName: -EIA7343-16V-10%(TANT); DeviceSetName: 100UF-POLAR; PROD_ID: CAP-08702; LibraryName: SparkFun-Capacitors; Package: EIA7343
footprint EIA7343
pins: A +, C -

## 100UF-POLAR-RADIAL-2.5MM-25V-20%
designator C?, comment 100ÂµF polarized capacitorsA capacitor is a passive two-terminal electrical component used to store electrical energy temporarily in an electric field.
GateName_1: G$1; SymbolName_1: CAP_POL; DeviceName: -RADIAL-2.5MM-25V-20%; DeviceSetName: 100UF-POLAR; PROD_ID: CAP-08439; LibraryName: SparkFun-Capacitors; Package: CPOL-RADIAL-2.5MM-6.5MM
footprint CPOL-RADIAL-2.5MM-6.5MM
pins: 1 +, 2 -

## 180PF-0603-50V-5%
designator C?, comment 180pF/0.18nF ceramic capacitorsA capacitor is a passive two-terminal electrical component used to store electrical energy temporarily in an electric field.
GateName_1: G$1; SymbolName_1: CAP; DeviceName: -0603-50V-5%; DeviceSetName: 180PF; PROD_ID: CAP-11661; LibraryName: SparkFun-Capacitors; Package: 0603
footprint 0603
pins: 1, 2

## 270PF-0603-50V-5%
designator C?, comment 270pF/0.27nF ceramic capacitorsA capacitor is a passive two-terminal electrical component used to store electrical energy temporarily in an electric field.
GateName_1: G$1; SymbolName_1: CAP; DeviceName: -0603-50V-5%; DeviceSetName: 270PF; PROD_ID: CAP-13339; LibraryName: SparkFun-Capacitors; Package: 0603
footprint 0603
pins: 1, 2

## 330PF-0603-50V-5%
designator C?, comment 330pF/0.33nF ceramic capacitorsA capacitor is a passive two-terminal electrical component used to store electrical energy temporarily in an electric field.
GateName_1: G$1; SymbolName_1: CAP; DeviceName: -0603-50V-5%; DeviceSetName: 330PF; PROD_ID: CAP-10108; LibraryName: SparkFun-Capacitors; Package: 0603
footprint 0603
pins: 1, 2

## 390NF-0603-10V-10%
designator C?, comment 0.39uF/390nF ceramic capacitorsA capacitor is a passive two-terminal electrical component used to store electrical energy temporarily in an electric field.
GateName_1: G$1; SymbolName_1: CAP; DeviceName: -0603-10V-10%; DeviceSetName: 390NF; PROD_ID: CAP-10986; LibraryName: SparkFun-Capacitors; Package: 0603
footprint 0603
pins: 1, 2

## 470NF-0402-16V-10%
designator C?, comment 0.47uF/470nF ceramic capacitorsA capacitor is a passive two-terminal electrical component used to store electrical energy temporarily in an electric field.
GateName_1: G$1; SymbolName_1: CAP; DeviceName: -0402-16V-10%; DeviceSetName: 470NF; PROD_ID: CAP-09041; LibraryName: SparkFun-Capacitors; Package: 0402
footprint 0402
pins: 1, 2

## 470NF-0402_TIGHT-6.3V-10%-X5R
designator C?, comment 0.47uF/470nF ceramic capacitorsA capacitor is a passive two-terminal electrical component used to store electrical energy temporarily in an electric field.
GateName_1: G$1; SymbolName_1: CAP; DeviceName: -0402_TIGHT-6.3V-10%-X5R; DeviceSetName: 470NF; PROD_ID: CAP-14242; LibraryName: SparkFun-Capacitors; Package: 0402-TIGHT
footprint 0402-TIGHT
pins: 1, 2

## 470NF-0603-10V-10%-X5R
designator C?, comment 0.47uF/470nF ceramic capacitorsA capacitor is a passive two-terminal electrical component used to store electrical energy temporarily in an electric field.
GateName_1: G$1; SymbolName_1: CAP; DeviceName: -0603-10V-10%-X5R; DeviceSetName: 470NF; PROD_ID: CAP-13216; LibraryName: SparkFun-Capacitors; Package: 0603
footprint 0603
pins: 1, 2

## 470PF-0603-50V-5%
designator C?, comment 470pF ceramic capacitorsA capacitor is a passive two-terminal electrical component used to store electrical energy temporarily in an electric field.
GateName_1: G$1; SymbolName_1: CAP; DeviceName: -0603-50V-5%; PROD_ID: CAP-07884; LibraryName: SparkFun-Capacitors; DeviceSetName: 470PF; Package: 0603
footprint 0603
pins: 1, 2

## 560PF-0603-50V-5%
designator C?, comment 0.56nF/560pF ceramic capacitorsA capacitor is a passive two-terminal electrical component used to store electrical energy temporarily in an electric field.
GateName_1: G$1; SymbolName_1: CAP; DeviceName: -0603-50V-5%; DeviceSetName: 560PF; PROD_ID: CAP-08749; LibraryName: SparkFun-Capacitors; Package: 0603
footprint 0603
pins: 1, 2

## 560UF-PANASONIC_G-25V-20%
designator C?, comment 560ÂµF polarized capacitorsA capacitor is a passive two-terminal electrical component used to store electrical energy temporarily in an electric field.
GateName_1: G$1; SymbolName_1: CAP_POL; DeviceName: -PANASONIC_G-25V-20%; DeviceSetName: 560UF; PROD_ID: CAP-09983; LibraryName: SparkFun-Capacitors; Package: PANASONIC_G
footprint PANASONIC_G
pins: +, -

## 680PF-0603-50V-10%
designator C?, comment 680pF/0.68nF ceramic capacitorsA capacitor is a passive two-terminal electrical component used to store electrical energy temporarily in an electric field.
GateName_1: G$1; SymbolName_1: CAP; DeviceName: -0603-50V-10%; DeviceSetName: 680PF; PROD_ID: CAP-09232; LibraryName: SparkFun-Capacitors; Package: 0603
footprint 0603
pins: 1, 2

## 1000UF-RADIAL-5MM-25V-20%
designator C?, comment 1,000ÂµF/1mF ceramic capacitorsA capacitor is a passive two-terminal electrical component used to store electrical energy temporarily in an electric field.CAP-08070
GateName_1: G$1; SymbolName_1: CAP_POL; DeviceName: -RADIAL-5MM-25V-20%; DeviceSetName: 1000UF; PROD_ID: CAP-09538; LibraryName: SparkFun-Capacitors; Package: CPOL-RADIAL-5MM-10MM
footprint CPOL-RADIAL-5MM-10MM
pins: +, -

## 1000UF-RADIAL-5MM-35V-20%-KIT
designator C?, comment 1,000ÂµF/1mF ceramic capacitorsA capacitor is a passive two-terminal electrical component used to store electrical energy temporarily in an electric field.CAP-08070
GateName_1: G$1; SymbolName_1: CAP_POL; DeviceName: -RADIAL-5MM-35V-20%-KIT; DeviceSetName: 1000UF; PROD_ID: CAP-09538; LibraryName: SparkFun-Capacitors; Package: CPOL-RADIAL-5MM-10MM-KIT
footprint CPOL-RADIAL-5MM-10MM-KIT
pins: +, -

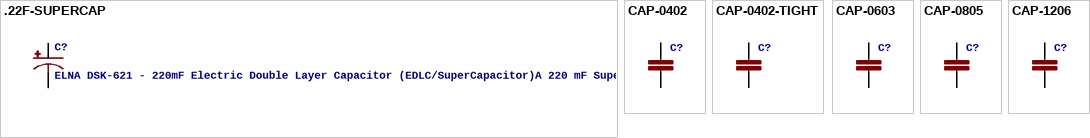
[diagram p4: symbols .22F-SUPERCAP to CAP-1206]

## .22F-SUPERCAP
designator C?, comment ELNA DSK-621 - 220mF Electric Double Layer Capacitor (EDLC/SuperCapacitor)A 220 mF SuperCapacitor. Used for backup power on devices with low standby current
GateName_1: G$1; SymbolName_1: CAP_POL; DeviceSetName: .22F-SUPERCAP; PROD_ID: CAP-13907; LibraryName: SparkFun-Capacitors; Package: DSK-RADIAL-4.8MM
footprint DSK-RADIAL-4.8MM
pins: +, -

## CAP-0402
designator C?
GateName_1: G$1; SymbolName_1: CAP; DeviceName: -0402; LibraryName: SparkFun-Capacitors; DeviceSetName: CAP; Package: 0402
footprint 0402
pins: 1, 2

## CAP-0402-TIGHT
designator C?
GateName_1: G$1; SymbolName_1: CAP; DeviceName: -0402-TIGHT; LibraryName: SparkFun-Capacitors; DeviceSetName: CAP; Package: 0402-TIGHT
footprint 0402-TIGHT
pins: 1, 2

## CAP-0603
designator C?
GateName_1: G$1; SymbolName_1: CAP; DeviceName: -0603; LibraryName: SparkFun-Capacitors; DeviceSetName: CAP; Package: 0603
footprint 0603
pins: 1, 2

## CAP-0805
designator C?
GateName_1: G$1; SymbolName_1: CAP; DeviceName: -0805; LibraryName: SparkFun-Capacitors; DeviceSetName: CAP; Package: 0805
footprint 0805
pins: 1, 2

## CAP-1206
designator C?
GateName_1: G$1; SymbolName_1: CAP; DeviceName: -1206; LibraryName: SparkFun-Capacitors; DeviceSetName: CAP; Package: 1206
footprint 1206
pins: 1, 2